# EAGLE library part MSP430F5172 (library temp)
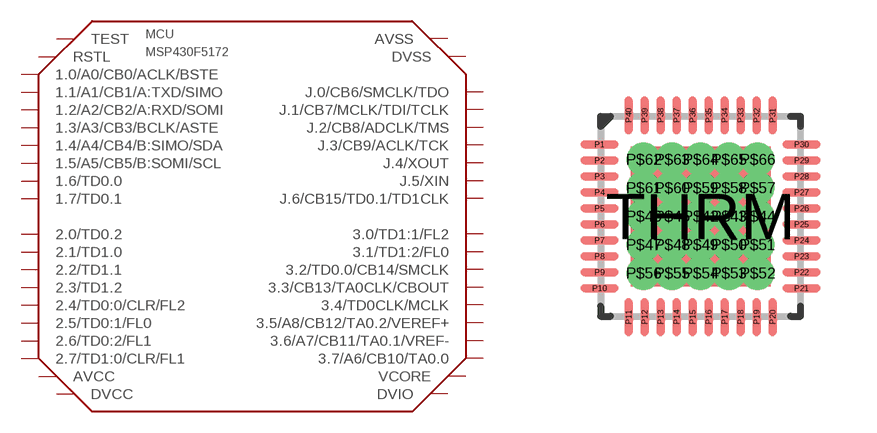
[diagram p2: symbol with the pads of QFN-40; footprint QFN-40]

Designator prefix MCU

## MSP430F5172QFN  [QFN-40]
P1  1.0/A0/CB0/ACLK/BSTE
P2  1.1/A1/CB1/A:TXD/SIMO
P3  1.2/A2/CB2/A:RXD/SOMI
P4  1.3/A3/CB3/BCLK/ASTE
P5  1.4/A4/CB4/B:SIMO/SDA
P6  1.5/A5/CB5/B:SOMI/SCL
P7  J.0/CB6/SMCLK/TDO
P8  J.1/CB7/MCLK/TDI/TCLK
P9  J.2/CB8/ADCLK/TMS
P10  J.3/CB9/ACLK/TCK
P11  1.6/TD0.0
P12  1.7/TD0.1
P13  2.0/TD0.2
P14  2.1/TD1.0
P15  2.2/TD1.1
P16  2.3/TD1.2
P17  DVIO
P18  DVSS
P19  2.4/TD0:0/CLR/FL2
P20  2.5/TD0:1/FL0
P21  2.6/TD0:2/FL1
P22  2.7/TD1:0/CLR/FL1
P23  3.0/TD1:1/FL2
P24  3.1/TD1:2/FL0
P25  VCORE
P26  DVSS
P27  DVCC
P28  J.6/CB15/TD0.1/TD1CLK
P29  3.2/TD0.0/CB14/SMCLK
P30  3.3/CB13/TA0CLK/CBOUT
P31  3.4/TD0CLK/MCLK
P32  TEST
P33  RSTL
P34  3.5/A8/CB12/TA0.2/VEREF+
P35  3.6/A7/CB11/TA0.1/VREF-
P36  3.7/A6/CB10/TA0.0
P37  AVCC
P38  J.4/XOUT
P39  J.5/XIN
P40  AVSS
P$42  DVSS
P$43  DVSS
P$44  DVSS
P$45  DVSS
P$46  DVSS
P$47  DVSS
P$48  DVSS
P$49  DVSS
P$50  DVSS
P$51  DVSS
P$52  DVSS
P$53  DVSS
P$54  DVSS
P$55  DVSS
P$56  DVSS
P$57  DVSS
P$58  DVSS
P$59  DVSS
P$60  DVSS
P$61  DVSS
P$62  DVSS
P$63  DVSS
P$64  DVSS
P$65  DVSS
P$66  DVSS
THRM  DVSS

## Footprint QFN-40 (pad centres in mm)
smd 0.95 x 0.2: P1 -2.525,1.8; P2 -2.525,1.4; P3 -2.525,1; P4 -2.525,0.6; P5 -2.525,0.2; P6 -2.525,-0.2; P7 -2.525,-0.6; P8 -2.525,-1; P9 -2.525,-1.4; P10 -2.525,-1.8; P21 2.525,-1.8; P22 2.525,-1.4; P23 2.525,-1; P24 2.525,-0.6; P25 2.525,-0.2; P26 2.525,0.2; P27 2.525,0.6; P28 2.525,1; P29 2.525,1.4; P30 2.525,1.8
smd 0.2 x 0.95: P11 -1.8,-2.525; P12 -1.4,-2.525; P13 -1,-2.525; P14 -0.6,-2.525; P15 -0.2,-2.525; P16 0.2,-2.525; P17 0.6,-2.525; P18 1,-2.525; P19 1.4,-2.525; P20 1.8,-2.525; P31 1.8,2.525; P32 1.4,2.525; P33 1,2.525; P34 0.6,2.525; P35 0.2,2.525; P36 -0.2,2.525; P37 -0.6,2.525; P38 -1,2.525; P39 -1.4,2.525; P40 -1.8,2.525
drill 0.33 pad 0.508: P$42 0,0; P$43 0.711,0; P$44 1.422,0; P$45 -0.711,0; P$46 -1.422,0; P$47 -1.422,-0.711; P$48 -0.711,-0.711; P$49 0,-0.711; P$50 0.711,-0.711; P$51 1.422,-0.711; P$52 1.422,-1.422; P$53 0.711,-1.422; P$54 0,-1.422; P$55 -0.711,-1.422; P$56 -1.422,-1.422; P$57 1.422,0.711; P$58 0.711,0.711; P$59 0,0.711; P$60 -0.711,0.711; P$61 -1.422,0.711; P$62 -1.422,1.422; P$63 -0.711,1.422; P$64 0,1.422; P$65 0.711,1.422; P$66 1.422,1.422
smd 3.5 x 3.5: THRM 0,0